# Altium schematic symbol library XLR_4_M_C.SchLib: 1 symbol
Pins are listed as number, name and electrical type; pins without a type are passive.

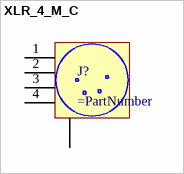
[diagram p0: symbol XLR_4_M_C]

## XLR_4_M_C
designator J?
pins: 0, 1, 2, 3, 4